# Altium footprint library Relay_THT.PcbLib: 6 footprints
Each footprint in its own frame and in the unit in brackets; x right, y up, seen from the top. Pads: shape width x height; smd on the part's side, far side on the other; paste and mask are expansions set on the pad; w line width, h text height; cw(c..) or ccw(c..) is an arc to the next point about the centre after c.
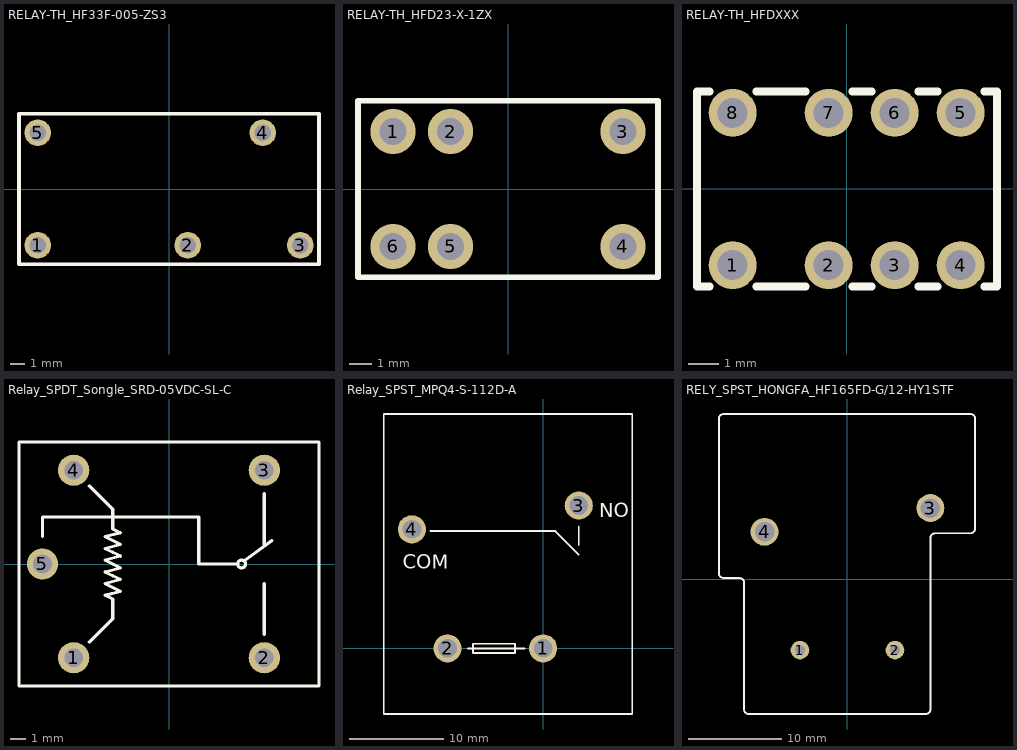
[diagram p0: the footprints below, top view; thin cyan lines are the x and y axes]

## RELAY-TH_HF33F-005-ZS3 [mm]
pads (5):
  round 1.8 hole 1.1: 1(-8.89,-3.81) 2(1.27,-3.81) 3(8.89,-3.81) 4(6.35,3.81) 5(-8.89,3.81)
Top Overlay:
  lines w0.254: -10.16,-5.1 -10.16,5.1 10.16,5.1 10.16,-5.1 -10.16,-5.1

## RELAY-TH_HFD23-X-1ZX [mm]
pads (6):
  round 2 hole 1.2: 1(-5.08,2.54) 2(-2.54,2.54) 3(5.08,2.54) 4(5.08,-2.54) 5(-2.54,-2.54) 6(-5.08,-2.54)
Top Overlay:
  lines w0.254: -6.63,-3.9 6.63,-3.9 6.63,3.9 -6.63,3.9 -6.63,-3.9
3D body: height 10, standoff 0, extent -6.5,-3.75 6.5,3.75

## RELAY-TH_HFDXXX [mm]
pads (8):
  round 1.6 hole 1: 1(-3.8,-2.54) 2(-0.6,-2.54) 3(1.6,-2.54) 4(3.8,-2.54) 5(3.8,2.54) 6(1.6,2.54) 7(-0.6,2.54) 8(-3.8,2.54)
Top Overlay:
  lines w0.254: -4.563,-3.25 -4.99,-3.25 -4.99,3.25 -4.563,3.25 ; -3.016,-3.25 -1.363,-3.25 ; -3.016,3.25 -1.363,3.25 ; 0.184,-3.25 0.837,-3.25 ; 0.184,3.25 0.837,3.25 ; 2.384,-3.25 3.037,-3.25 ; 2.384,3.25 3.037,3.25 ; 4.584,-3.25 5.01,-3.25 5.01,3.25 4.584,3.25

## Relay_SPDT_Songle_SRD-05VDC-SL-C [mm]
pads (5):
  round 2 hole 1.2: 1(-6.1,-6) 2(6.1,-6) 3(6.1,6) 4(-6.1,6) 5(-8.1,0)
Top Overlay:
  circle w0.203: c4.65,0 r0.25
  lines w0.203: -8.1,1.75 -8.1,3 1.9,3 1.9,0 4.4,0 ; -5.1,-5 -3.6,-3.5 -3.6,-2.25 -4.1,-2 -3.1,-1.75 -3.6,-1.5 -4.1,-1.25 -3.1,-1 -3.6,-0.75 -4.1,-0.5 -3.1,-0.25 -3.6,0 -4.1,0.25 -3.1,0.5 -3.6,0.75 -4.1,1 -3.1,1.25 -3.6,1.5 -4.1,1.75 -3.1,2 -3.6,2.25 -3.6,3.5 -5.1,5 ; 4.85,0.25 6.6,1.5 ; 6.1,-4.5 6.1,-1.25 ; 6.1,1.25 6.1,4.5 ; -9.6,-7.8 9.6,-7.8 9.6,7.8 -9.6,7.8 -9.6,-7.8
3D body: height 0.25, standoff -15.81, extent 0,-2.5 0,-2.5
3D body "User Library-SONGLE Relay SRU-12VDC-SL-C.STEP": height 15.3, standoff -5, extent -9.6,-7.8 9.5,7.7

## Relay_SPST_MPQ4-S-112D-A [mm]
pads (4):
  round 3 hole 2: 1(0,0) 2(-10.2,0) 3(3.8,15.24) 4(-14,12.7)
Top Overlay:
  lines w0.2: -12,12.5 1,12.5 1.3,12.5 3.8,10 ; -8,0 -2,0 ; 3.8,11 3.8,13 ; -17,-7 -17,25 9.5,25 9.5,-7 -17,-7 ; -7.5,-0.5 -3,-0.5 -3,0.5 -7.5,0.5 -7.5,-0.5
  text "COM" at -15,8.5 h1.5
  text "NO" at 6,14 h1.5

## RELY_SPST_HONGFA_HF165FD-G/12-HY1STF [mm]
height 20.4
pads (4):
  round 2 hole 1.1: 1(-5.1,-7.62) 2(5.1,-7.62)
  round 3 hole 2.1: 3(8.9,7.62) 4(-8.9,5.08)
Top Overlay:
  lines w0.203: -13.8,0.62 ccw(c-13.3,0.62) -13.3,0.12 -11.6,0.12 cw(c-11.6,-0.38) -11.1,-0.38 -11.1,-13.98 ccw(c-10.6,-13.98) -10.6,-14.48 8.4,-14.48 ccw(c8.4,-13.98) 8.9,-13.98 8.9,4.42 cw(c9.4,4.42) 9.4,4.92 13.2,4.92 ccw(c13.2,5.42) 13.7,5.42 13.7,17.22 ccw(c13.2,17.22) 13.2,17.72 -13.3,17.72 ccw(c-13.3,17.22) -13.8,17.22 -13.8,0.62
3D body: height 20.4, standoff 0.25, extent -13.8,-14.48 13.7,17.72
3D body: height 1, standoff 1, extent -9.9,4.082 -7.908,6.078
3D body: height 1, standoff 1, extent 7.9,6.622 9.892,8.618
3D body: height 1, standoff 1, extent -5.596,-8.119 -4.6,-7.121
3D body: height 1, standoff 1, extent 4.604,-8.119 5.6,-7.121